# Altium schematic symbol library MAX30205.SchLib: 1 symbol
Pins are listed as number, name and electrical type; pins without a type are passive.

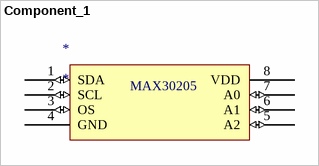
[diagram p0: symbol Component_1]

## Component_1
designator *
footprint SON65P300X20_HS-9N (SON, 8-Leads, Body 3.00x3.00mm, Pitch 0.65mm, Thermal Pad 2.35x1.58mm, IPC Medium Density)
pins: 1 SDA (io), 2 SCL (io), 3 OS (io), 4 GND (power), 5 A2 (io), 6 A1 (io), 7 A0 (io), 8 VDD (power)
text: MAX30205